# Altium integrated library 1825159-1.IntLib: 1 symbol
Pins are listed as number, name and electrical type; pins without a type are passive.

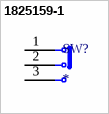
[diagram p0: symbol 1825159-1]

## 1825159-1
designator SW?
Slide Switch SPDT Through Hole; MP: 1825159-1; Configuration_Pole-Throw: Single Pole - Double Throw; Contact_Current_Rating: .25 A; MF: TE Connectivity; Value: *; SnapEDA_Link: https://www.snapeda.com/parts/1825159-1/TE+Connectivity+ALCOSWITCH+Switches/view-part/?ref=snap; Switch_Type: Slide; Purchase-URL: https://pricing.snapeda.com/search/part/1825159-1/?ref=eda; Check_prices: https://www.snapeda.com/parts/1825159-1/TE+Connectivity+ALCOSWITCH+Switches/view-part/?ref=eda; Availability: In Stock; EU_RoHS_Compliance: Compliant; Price: None; Package: None
footprint SW_1825159-1
pins: 1, 2, 3